# EAGLE library part STM32G071G8U6 (library STM32G071G8U6)
Arm Cortex-M0+ 32-bit MCU, up to 128 KB Flash, 36 KB RAM, 4x USART, timers, ADC, DAC, comm. I/Fs, 1.7-3.6V Source: Datasheet <https://www.st.com/resource/en/datasheet/stm32g071c8.pdf>
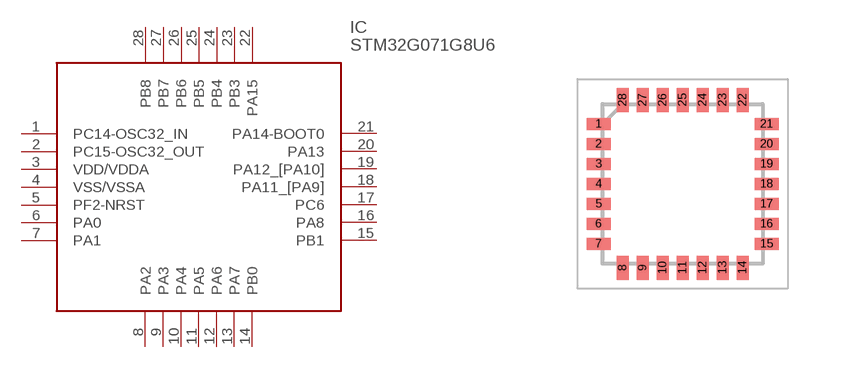
[diagram p0: symbol with the pads of QFN50P400X400X60-28N; footprint QFN50P400X400X60-28N]

Designator prefix IC

## STM32G071G8U6 (Arrow_Part_Number: STM32G071G8U6; Arrow_Price-Stock: https://www.arrow.com/en/products/stm32g071g8u6/stmicroelectronics.html?utm_currency=USD&region=nac; Description: Arm Cortex-M0+ 32-bit MCU, up to 128 KB Flash, 36 KB RAM, 4x USART, timers, ADC, DAC, comm. I/Fs, 1.7-3.6V; Height: 0.6mm; Manufacturer_Name: STMicroelectronics; Manufacturer_Part_Number: STM32G071G8U6; Mouser_Part_Number: 511-STM32G071G8U6; Mouser_Price-Stock: https://www.mouser.co.uk/ProductDetail/STMicroelectronics/STM32G071G8U6?qs=l7cgNqFNU1h6sPpCoQAi5w%3D%3D)  [QFN50P400X400X60-28N]
1  PC14-OSC32_IN
2  PC15-OSC32_OUT
3  VDD/VDDA
4  VSS/VSSA
5  PF2-NRST
6  PA0
7  PA1
8  PA2
9  PA3
10  PA4
11  PA5
12  PA6
13  PA7
14  PB0
15  PB1
16  PA8
17  PC6
18  PA11_[PA9]
19  PA12_[PA10]
20  PA13
21  PA14-BOOT0
22  PA15
23  PB3
24  PB4
25  PB5
26  PB6
27  PB7
28  PB8

## Footprint QFN50P400X400X60-28N (pad centres in mm)
UFQFPN28
smd 0.6 x 0.3: 1 -2.1,1.5; 2 -2.1,1; 3 -2.1,0.5; 4 -2.1,0; 5 -2.1,-0.5; 6 -2.1,-1; 7 -2.1,-1.5; 15 2.1,-1.5; 16 2.1,-1; 17 2.1,-0.5; 18 2.1,0; 19 2.1,0.5; 20 2.1,1; 21 2.1,1.5
smd 0.3 x 0.6: 8 -1.5,-2.1; 9 -1,-2.1; 10 -0.5,-2.1; 11 0,-2.1; 12 0.5,-2.1; 13 1,-2.1; 14 1.5,-2.1; 22 1.5,2.1; 23 1,2.1; 24 0.5,2.1; 25 0,2.1; 26 -0.5,2.1; 27 -1,2.1; 28 -1.5,2.1